# Altium schematic symbol library RFConnectors.SchLib: 1 symbol
Pins are listed as number, name and electrical type; pins without a type are passive.

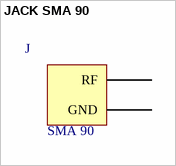
[diagram p0: symbol JACK SMA 90]

## JACK SMA 90
designator J  value SMA 90  (hidden comment: *)
Manufacturer: AMPHENOL RF; Manufacturer Code: 901-143-6RFX; Impedance: 50R; Farnell Code: 1608609; Unit Price: 6,82 €
footprint SMA-90
pins: 1 RF, 2 GND